# Altium schematic symbol library 400ETB_SchematicLib.SchLib: 16 symbols
Pins are listed as number, name and electrical type; pins without a type are passive.

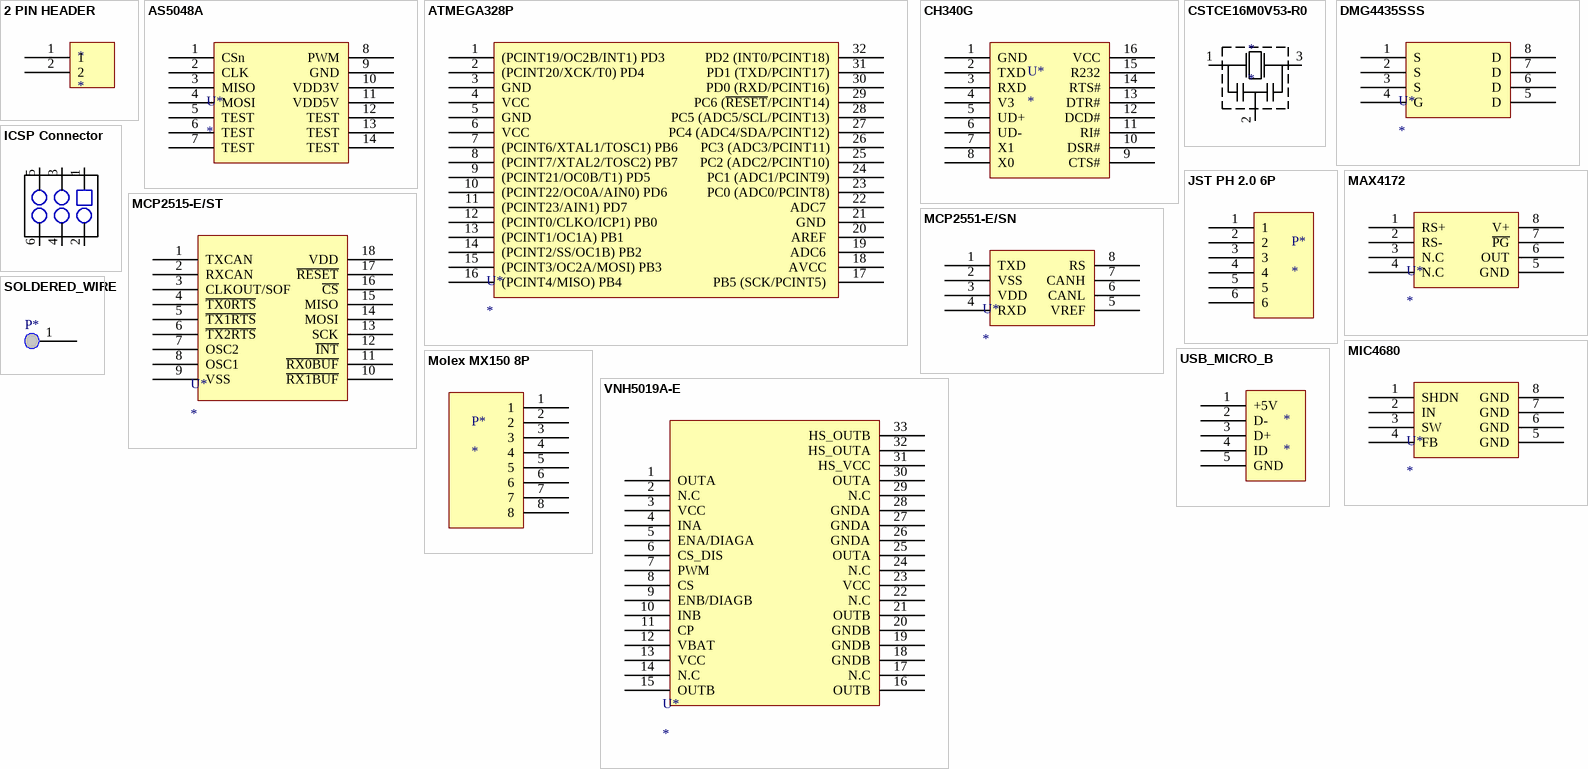
[diagram p0: symbols 2 PIN HEADER to VNH5019A-E]

## 2 PIN HEADER
designator *
pins: 1, 2

## AS5048A
designator U*
TSSOP
footprint TSSOP-14
pins: 1 CSn, 2 CLK, 3 MISO, 4 MOSI, 5 TEST, 6 TEST, 7 TEST, 8 PWM, 9 GND, 10 VDD3V, 11 VDD5V, 12 TEST, 13 TEST, 14 TEST

## ATMEGA328P
designator U*
TQFN
footprint TFQP-32 (TQFP, 32-Leads, Body 7.00x7.00mm, Pitch 0.80mm, IPC Low Density)
pins: 1 (PCINT19/OC2B/INT1) PD3, 2 (PCINT20/XCK/T0) PD4 , 3 GND , 4 VCC , 5 GND , 6 VCC , 7 (PCINT6/XTAL1/TOSC1) PB6 , 8 (PCINT7/XTAL2/TOSC2) PB7 , 9 (PCINT21/OC0B/T1) PD5 , 10 (PCINT22/OC0A/AIN0) PD6 , 11 (PCINT23/AIN1) PD7 , 12 (PCINT0/CLKO/ICP1) PB0 , 13 (PCINT1/OC1A) PB1 , 14 (PCINT2/SS/OC1B) PB2 , 15 (PCINT3/OC2A/MOSI) PB3 , 16 (PCINT4/MISO) PB4 , 17 PB5 (SCK/PCINT5) , 18 AVCC , 19 ADC6 , 20 AREF , 21 GND , 22 ADC7 , 23 PC0 (ADC0/PCINT8), 24 PC1 (ADC1/PCINT9), 25 PC2 (ADC2/PCINT10), 26 PC3 (ADC3/PCINT11), 27 PC4 (ADC4/SDA/PCINT12), 28 PC5 (ADC5/SCL/PCINT13), 29 PC6 (~{RESET}/PCINT14), 30 PD0 (RXD/PCINT16), 31 PD1 (TXD/PCINT17), 32 PD2 (INT0/PCINT18)

## CH340G
designator U*
pins: 1 GND, 2 TXD, 3 RXD, 4 V3, 5 UD+, 6 UD-, 7 X1, 8 X0, 9 CTS#, 10 DSR#, 11 RI#, 12 DCD#, 13 DTR#, 14 RTS#, 15 R232, 16 VCC

## CSTCE16M0V53-R0
designator *
footprint CSTCE16M0V53-R0 (16MHz Resonator)
pins: 1, 2, 3

## DMG4435SSS
designator U*
SOIC
footprint SOIC-8 (SOIC, 8-Leads, Body 4.90x3.90mm, Pitch 1.27mm, IPC Low Density)
pins: 1 S, 2 S, 3 S, 4 G, 5 D, 6 D, 7 D, 8 D

## ICSP Connector
designator ?  (value not drawn)
footprint ICSP Connector
pins: 1, 2, 3, 4, 5, 6

## JST PH 2.0 6P
designator P*
pins: 1, 2, 3, 4, 5, 6

## MAX4172
designator U*
SOIC
footprint SOIC-8 (SOIC, 8-Leads, Body 4.90x3.90mm, Pitch 1.27mm, IPC Low Density)
pins: 1 RS+, 2 RS-, 3 N.C, 4 N.C, 5 GND, 6 OUT, 7 ~{PG}, 8 V+

## MCP2515-E/ST
designator U*
SOIC
footprint SOIC-18 (SOIC, 18-Leads, Body 11.50x7.50mm, Pitch 1.27mm, IPC Low Density)
pins: 1 TXCAN , 2 RXCAN , 3 CLKOUT/SOF , 4 ~{TX0RTS} , 5 ~{TX1RTS} , 6 ~{TX2RTS} , 7 OSC2 , 8 OSC1, 9 VSS, 10 ~{RX1BUF}, 11 ~{RX0BUF}, 12 ~{INT}, 13 SCK, 14 MOSI, 15 MISO, 16 ~{CS}, 17 ~{RESET}, 18 VDD

## MCP2551-E/SN
designator U*
SOIC
footprint SOIC-8 (SOIC, 8-Leads, Body 4.90x3.90mm, Pitch 1.27mm, IPC Low Density)
pins: 1 TXD, 2 VSS, 3 VDD, 4 RXD, 5 VREF, 6 CANL, 7 CANH, 8 RS

## MIC4680
designator U*
SOIC
footprint SOIC-8 (SOIC, 8-Leads, Body 4.90x3.90mm, Pitch 1.27mm, IPC Low Density)
pins: 1 SHDN, 2 IN, 3 SW, 4 FB, 5 GND, 6 GND, 7 GND, 8 GND

## Molex MX150 8P
designator P*
pins: 1, 2, 3, 4, 5, 6, 7, 8

## SOLDERED_WIRE
designator P*  (value not drawn)
footprint SOLDERED_WIRE (Direct connect to board)
pins: 1

## USB_MICRO_B
designator *
footprint USB MICRO B THRU
pins: 1 +5V, 2 D-, 3 D+, 4 ID, 5 GND

## VNH5019A-E
designator U*
TQFN
footprint VNH5019ATR-E (SOP-30)
pins: 1 OUTA, 2 N.C, 3 VCC, 4 INA, 5 ENA/DIAGA, 6 CS_DIS, 7 PWM, 8 CS, 9 ENB/DIAGB, 10 INB, 11 CP, 12 VBAT, 13 VCC, 14 N.C, 15 OUTB, 16 OUTB, 17 N.C, 18 GNDB, 19 GNDB, 20 GNDB, 21 OUTB, 22 N.C, 23 VCC, 24 N.C, 25 OUTA, 26 GNDA, 27 GNDA, 28 GNDA, 29 N.C, 30 OUTA, 31 HS_VCC, 32 HS_OUTA, 33 HS_OUTB